# EAGLE library part BH7236AF (library ROHM_Video_Encoder)
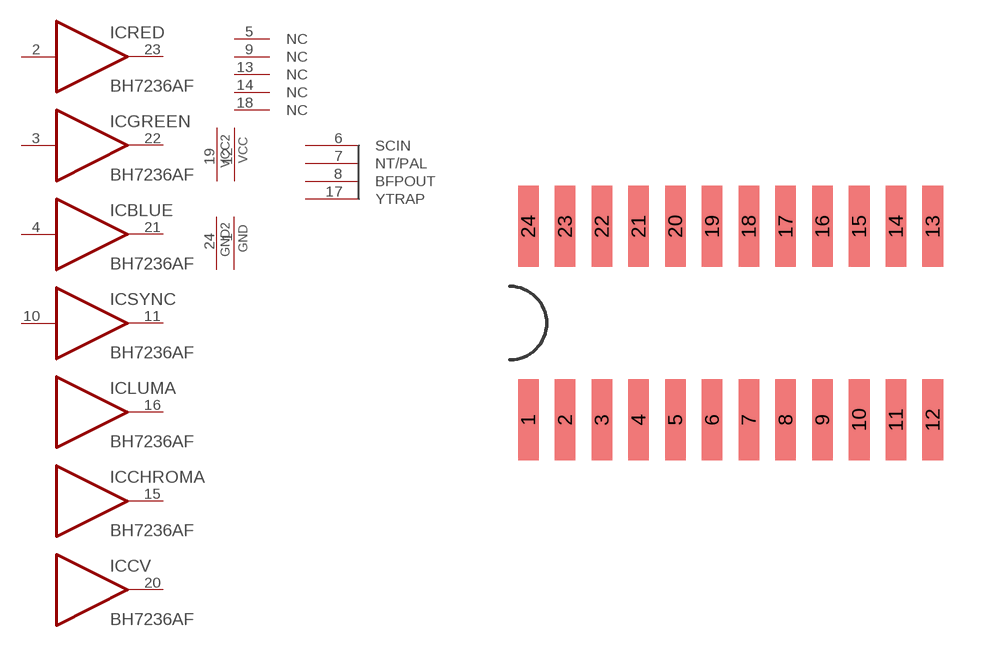
[diagram p0: symbol with the pads of SOP24N; footprint SOP24N]

Designator prefix IC; gates RED=BUFFER GREEN=BUFFER BLUE=BUFFER SYNC=BUFFER LUMA=BUFFERNOIN CHROMA=BUFFERNOIN G$7=NC G$8=NC G$9=NC G$10=NC G$11=NC G$12=PWRN_VCC2 G$13=BH7236AF CV=BUFFERNOIN

## BH7236AF  [SOP24N]
1  G$12:GND  pwr
2  RED:I
3  GREEN:I
4  BLUE:I
5  G$7:NC  nc
6  G$13:SCIN
7  G$13:NT/PAL  in
8  G$13:BFPOUT  out
9  G$8:NC  nc
10  SYNC:I
11  SYNC:O  out
12  G$12:VCC  pwr
13  G$9:NC  nc
14  G$10:NC  nc
15  CHROMA:O  out
16  LUMA:O  out
17  G$13:YTRAP
18  G$11:NC  nc
19  G$12:VCC2  pwr
20  CV:O  out
21  BLUE:O  out
22  GREEN:O  out
23  RED:O  out
24  G$12:GND2  pwr

## Footprint SOP24N (pad centres in mm)
smd 0.711 x 2.794: 1 -5.715,-3.34; 2 -4.445,-3.34; 3 -3.175,-3.34; 4 -1.905,-3.34; 5 -0.635,-3.34; 6 0.635,-3.34; 7 1.905,-3.34; 8 3.175,-3.34; 9 4.445,-3.34; 10 5.715,-3.34; 11 6.985,-3.34; 12 8.255,-3.34; 13 8.255,3.34; 14 6.985,3.34; 15 5.715,3.34; 16 4.445,3.34; 17 3.175,3.34; 18 1.905,3.34; 19 0.635,3.34; 20 -0.635,3.34; 21 -1.905,3.34; 22 -3.175,3.34; 23 -4.445,3.34; 24 -5.715,3.34